# Altium schematic symbol library 1EDN7511B.SchLib: 1 symbol
Pins are listed as number, name and electrical type; pins without a type are passive.

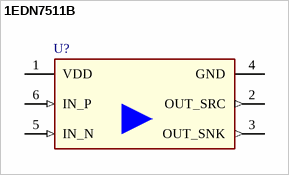
[diagram p0: symbol 1EDN7511B]

## 1EDN7511B
designator U?  (value not drawn)
EiceDRIVER, Fast Single Channel 4A/8A Low-Side Gate Driver, UVLO - 4.2V; Manufacturer: Infineon Technologies; ManufacturerPartNumber: 1EDN7511B; PackageReference: PG-SOT23-6-2
footprint SOT95P280X145-6N-7-V (SOT,0.95mm pitch;6 pin,1.60mm W X 2.90mm L X 1.45mm H body)
pins: 1 VDD (power) "Positive Supply Voltage", 2 OUT_SRC (out) "Driver Output Source", 3 OUT_SNK (out) "Driver Output Sink", 4 GND (power) "Ground", 5 IN_N (in) "Inverting Input", 6 IN_P (in) "Non-Inverting Input"